# Altium schematic symbol library TransistorGOST.SchLib: 3 symbols
Pins are listed as number, name and electrical type; pins without a type are passive.

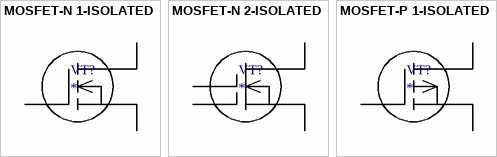
[diagram p0: symbols MOSFET-N 1-ISOLATED to MOSFET-P 1-ISOLATED]

## MOSFET-N 1-ISOLATED
designator VT?
N-канальный МОП-транзистор с изолированным затвором; Order: МОП-транзистор*, *, *; Manufacturer: *; ManufacturerCountry: *; Value: *
footprint SOT23-3
footprint ST SOT-223 (SOT223, 4-Leads, Body 6.50x7.00mm (avg), Pitch 2.30mm, IPC Medium Density)
pins: 1 G "Затвор", 2 S "Исток", 3 D "Сток"

## MOSFET-N 2-ISOLATED
designator VT?
N-канальный МОП-транзистор с двумя изолированными затворами; Order: МОП-транзистор*, *, *; Manufacturer: *; ManufacturerCountry: *; Value: *
pins: 1 G "Затвор", 2 D "Сток", 3 S "Исток"

## MOSFET-P 1-ISOLATED
designator VT?
P-канальный МОП-транзистор с изолированным затвором; Order: МОП-транзистор*, *, *; Manufacturer: *; MAnufacturerCountry: *; Value: *
footprint SOT23-3
pins: 1 G "Затвор", 2 S "Исток", 3 D "Сток"